# Altium integrated library ZYNQ7010_AD9363.IntLib: 82 symbols
Pins are listed as number, name and electrical type; pins without a type are passive.

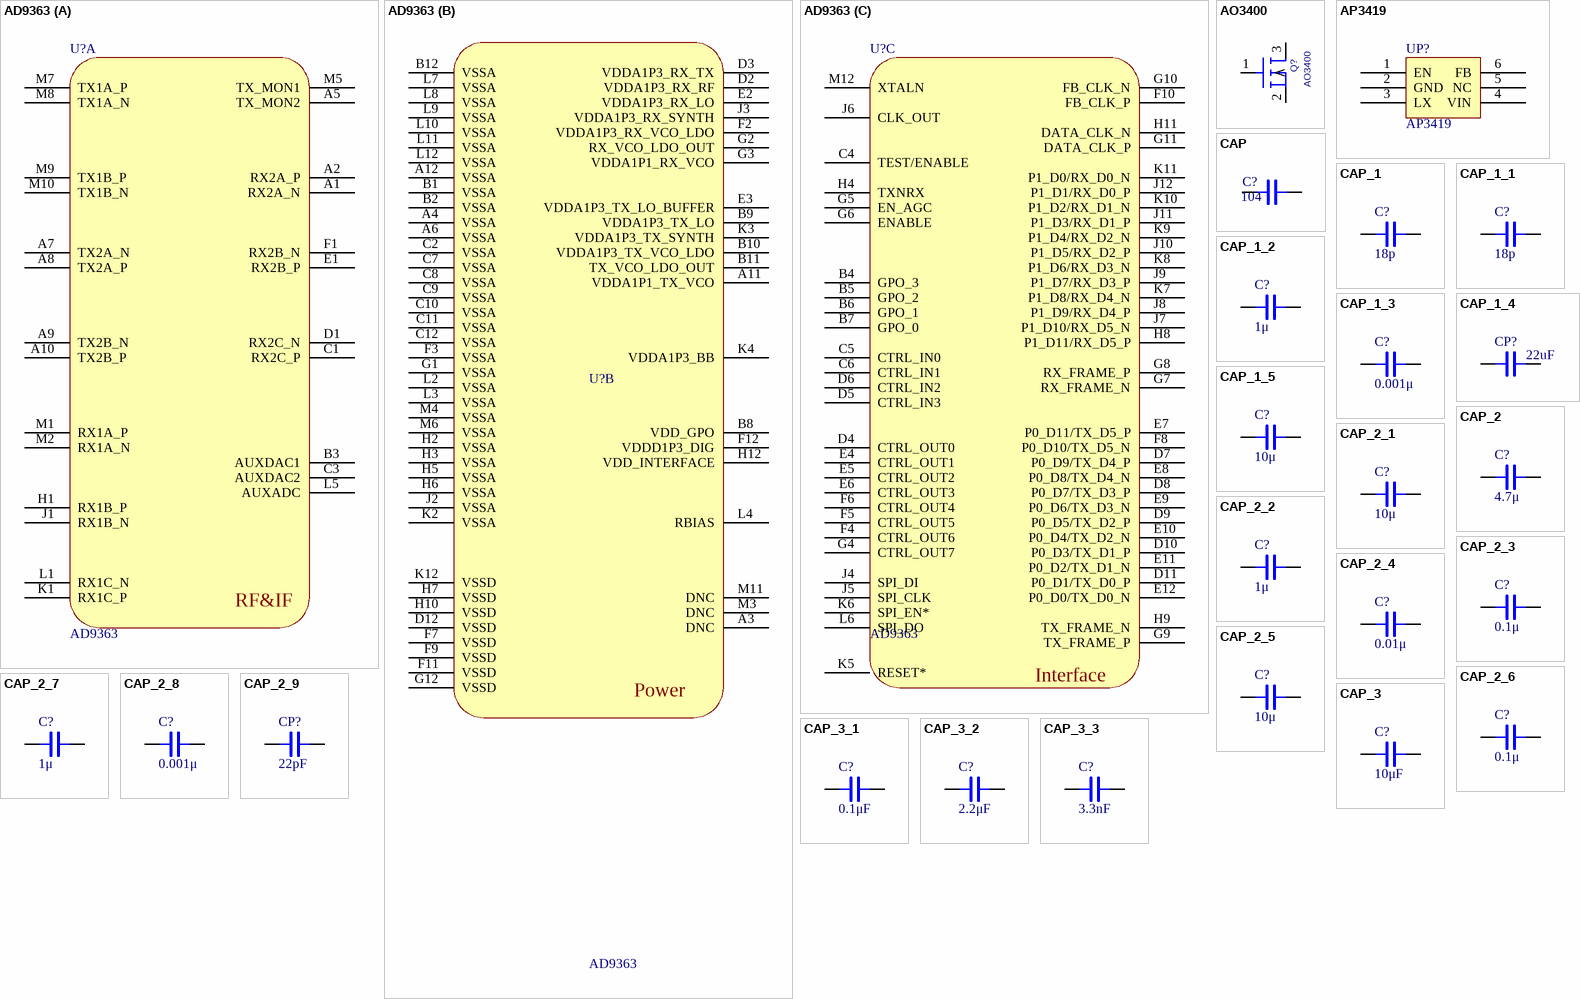
[diagram p0: symbols AD9363 to CAP_3_3]

## AD9363
designator U?
footprint AD936X
part A pins: A1 RX2A_N, A2 RX2A_P, A5 TX_MON2, A7 TX2A_N, A8 TX2A_P, A9 TX2B_N, A10 TX2B_P, B3 AUXDAC1, C1 RX2C_P, C3 AUXDAC2, D1 RX2C_N, E1 RX2B_P, F1 RX2B_N, H1 RX1B_P, J1 RX1B_N, K1 RX1C_P, L1 RX1C_N, L5 AUXADC, M1 RX1A_P, M2 RX1A_N, M5 TX_MON1, M7 TX1A_P, M8 TX1A_N, M9 TX1B_P, M10 TX1B_N
part B pins: A3 DNC, A4 VSSA, A6 VSSA, A11 VDDA1P1_TX_VCO, A12 VSSA, B1 VSSA, B2 VSSA, B8 VDD_GPO, B9 VDDA1P3_TX_LO, B10 VDDA1P3_TX_VCO_LDO, B11 TX_VCO_LDO_OUT, B12 VSSA, C2 VSSA, C7 VSSA, C8 VSSA, C9 VSSA, C10 VSSA, C11 VSSA, C12 VSSA, D2 VDDA1P3_RX_RF, D3 VDDA1P3_RX_TX, D12 VSSD, E2 VDDA1P3_RX_LO, E3 VDDA1P3_TX_LO_BUFFER, F2 VDDA1P3_RX_VCO_LDO, F3 VSSA, F7 VSSD, F9 VSSD, F11 VSSD, F12 VDDD1P3_DIG, G1 VSSA, G2 RX_VCO_LDO_OUT, G3 VDDA1P1_RX_VCO, G12 VSSD, H2 VSSA, H3 VSSA, H5 VSSA, H6 VSSA, H7 VSSD, H10 VSSD, H12 VDD_INTERFACE, J2 VSSA, J3 VDDA1P3_RX_SYNTH, K2 VSSA, K3 VDDA1P3_TX_SYNTH, K4 VDDA1P3_BB, K12 VSSD, L2 VSSA, L3 VSSA, L4 RBIAS, L7 VSSA, L8 VSSA, L9 VSSA, L10 VSSA, L11 VSSA, L12 VSSA, M3 DNC, M4 VSSA, M6 VSSA, M11 DNC
part C pins: B4 GPO_3, B5 GPO_2, B6 GPO_1, B7 GPO_0, C4 TEST/ENABLE, C5 CTRL_IN0, C6 CTRL_IN1, D4 CTRL_OUT0, D5 CTRL_IN3, D6 CTRL_IN2, D7 P0_D9/TX_D4_P, D8 P0_D7/TX_D3_P, D9 P0_D5/TX_D2_P, D10 P0_D3/TX_D1_P, D11 P0_D1/TX_D0_P, E4 CTRL_OUT1, E5 CTRL_OUT2, E6 CTRL_OUT3, E7 P0_D11/TX_D5_P, E8 P0_D8/TX_D4_N, E9 P0_D6/TX_D3_N, E10 P0_D4/TX_D2_N, E11 P0_D2/TX_D1_N, E12 P0_D0/TX_D0_N, F4 CTRL_OUT6, F5 CTRL_OUT5, F6 CTRL_OUT4, F8 P0_D10/TX_D5_N, F10 FB_CLK_P, G4 CTRL_OUT7, G5 EN_AGC, G6 ENABLE, G7 RX_FRAME_N, G8 RX_FRAME_P, G9 TX_FRAME_P, G10 FB_CLK_N, G11 DATA_CLK_P, H4 TXNRX, H8 P1_D11/RX_D5_P, H9 TX_FRAME_N, H11 DATA_CLK_N, J4 SPI_DI, J5 SPI_CLK, J6 CLK_OUT, J7 P1_D10/RX_D5_N, J8 P1_D9/RX_D4_P, J9 P1_D7/RX_D3_P, J10 P1_D5/RX_D2_P, J11 P1_D3/RX_D1_P, J12 P1_D1/RX_D0_P, K5 RESET*, K6 SPI_EN*, K7 P1_D8/RX_D4_N, K8 P1_D6/RX_D3_N, K9 P1_D4/RX_D2_N, K10 P1_D2/RX_D1_N, K11 P1_D0/RX_D0_N, L6 SPI_DO, M12 XTALN
part A text: RF&IF
part B text: Power
part C text: Interface

## AO3400
designator Q?
PSpiceTemplate: X^@REFDES %d %g %s @MODEL
simulation model AO3400
footprint NMOS
pins: 1 G, 2 S, 3 D

## AP3419
designator UP?
footprint AP3419
pins: 1 EN, 2 GND, 3 LX, 4 VIN, 5 NC, 6 FB

## CAP
designator C?, comment 104
Capacitor
footprint LC-0402_C
pins: 1, 2

## CAP_1
designator C?, comment 18p
Capacitor
footprint LC-0603_C
footprint LC-0805_C
footprint LC-0402_C
pins: 1, 2

## CAP_1_1
designator C?, comment 18p
Capacitor
footprint LC-0402_C
pins: 1, 2

## CAP_1_2
designator C?, comment 1μ
Capacitor
footprint LC-0402_C
pins: 1, 2

## CAP_1_3
designator C?, comment 0.001μ
Capacitor
footprint LC-0402_C
pins: 1, 2

## CAP_1_4
designator CP?, comment 22uF
Capacitor
footprint LC-0805_C
pins: 1, 2

## CAP_1_5
designator C?, comment 10μ
Capacitor
footprint LC-0402_C
pins: 1, 2

## CAP_2
designator C?, comment 4.7μ
Capacitor
footprint LC-0603_C
footprint LC-0805_C
footprint LC-0402_C
pins: 1, 2

## CAP_2_1
designator C?, comment 10μ
Capacitor
footprint LC-0603_C
footprint LC-0805_C
footprint LC-0402_C
pins: 1, 2

## CAP_2_2
designator C?, comment 1μ
Capacitor
footprint LC-0603_C
footprint LC-0805_C
footprint LC-0402_C
pins: 1, 2

## CAP_2_3
designator C?, comment 0.1μ
Capacitor
footprint LC-0603_C
footprint LC-0805_C
footprint LC-0402_C
pins: 1, 2

## CAP_2_4
designator C?, comment 0.01μ
Capacitor
footprint LC-0603_C
footprint LC-0805_C
footprint LC-0402_C
pins: 1, 2

## CAP_2_5
designator C?, comment 10μ
Capacitor
footprint LC-0402_C
pins: 1, 2

## CAP_2_6
designator C?, comment 0.1μ
Capacitor
footprint LC-0402_C
pins: 1, 2

## CAP_2_7
designator C?, comment 1μ
Capacitor
footprint LC-0402_C
pins: 1, 2

## CAP_2_8
designator C?, comment 0.001μ
Capacitor
footprint LC-0402_C
pins: 1, 2

## CAP_2_9
designator CP?, comment 22pF
Capacitor
footprint LC-0603_C
footprint LC-0805_C
footprint LC-0402_C
pins: 1, 2

## CAP_3
designator C?, comment 10μF
Capacitor
footprint LC-0805_C
pins: 1, 2

## CAP_3_1
designator C?, comment 0.1μF
Capacitor
footprint LC-0603_C
footprint LC-0805_C
footprint LC-0402_C
pins: 1, 2

## CAP_3_2
designator C?, comment 2.2μF
Capacitor
footprint LC-0603_C
footprint LC-0805_C
footprint LC-0402_C
pins: 1, 2

## CAP_3_3
designator C?, comment 3.3nF
Capacitor
footprint LC-0603_C
footprint LC-0805_C
footprint LC-0402_C
pins: 1, 2

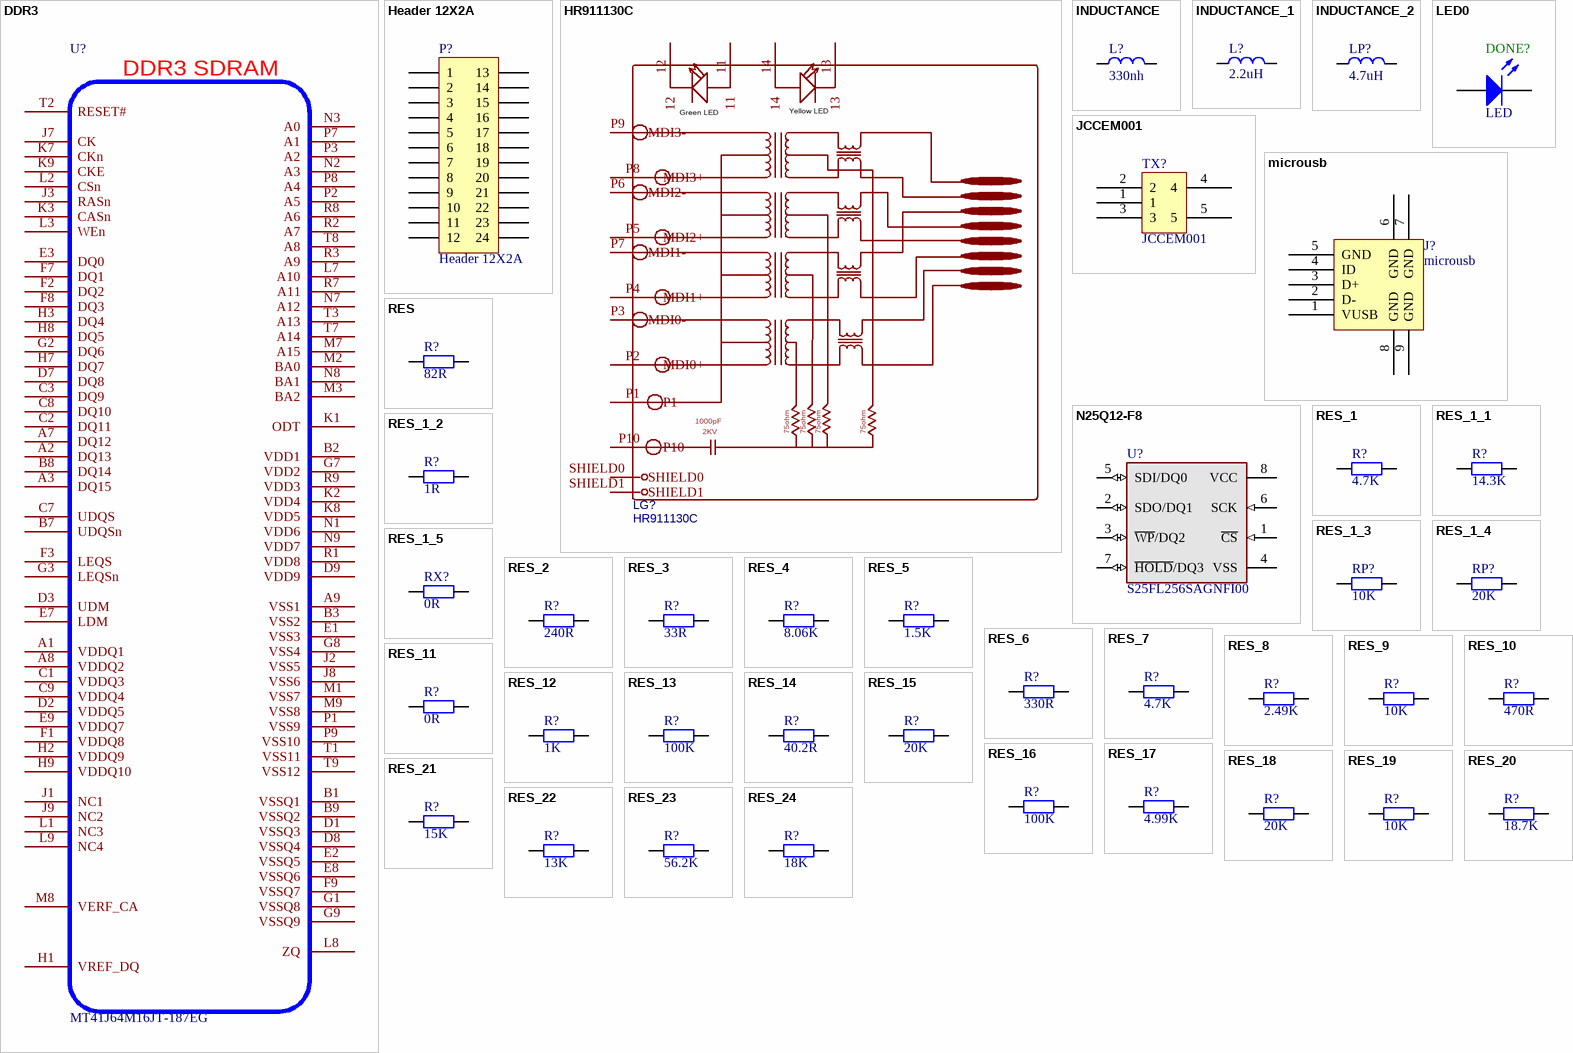
[diagram p1: symbols DDR3 to RES_24]

## DDR3
designator U?, comment MT41J64M16JT-187EG
footprint FBGA96
pins: A1 VDDQ1, A2 DQ13, A3 DQ15, A7 DQ12, A8 VDDQ2, A9 VSS1, B1 VSSQ1, B2 VDD1, B3 VSS2, B7 UDQSn, B8 DQ14, B9 VSSQ2, C1 VDDQ3, C2 DQ11, C3 DQ9, C7 UDQS, C8 DQ10, C9 VDDQ4, D1 VSSQ3, D2 VDDQ5, D3 UDM, D7 DQ8, D8 VSSQ4, D9 VDD9, E1 VSS3, E2 VSSQ5, E3 DQ0, E7 LDM, E8 VSSQ6, E9 VDDQ7, F1 VDDQ8, F2 DQ2, F3 LEQS, F7 DQ1, F8 DQ3, F9 VSSQ7, G1 VSSQ8, G2 DQ6, G3 LEQSn, G7 VDD2, G8 VSS4, G9 VSSQ9, H1 VREF_DQ, H2 VDDQ9, H3 DQ4, H7 DQ7, H8 DQ5, H9 VDDQ10, J1 NC1, J2 VSS5, J3 RASn, J7 CK, J8 VSS6, J9 NC2, K1 ODT, K2 VDD4, K3 CASn, K7 CKn, K8 VDD5, K9 CKE, L1 NC3, L2 CSn, L3 WEn, L7 A10, L8 ZQ, L9 NC4, M1 VSS7, M2 BA0, M3 BA2, M7 A15, M8 VERF_CA, M9 VSS8, N1 VDD6, N2 A3, N3 A0, N7 A12, N8 BA1, N9 VDD7, P1 VSS9, P2 A5, P3 A2, P7 A1, P8 A4, P9 VSS10, R1 VDD8, R2 A7, R3 A9, R7 A11, R8 A6, R9 VDD3, T1 VSS11, T2 RESET#, T3 A13, T7 A14, T8 A8, T9 VSS12
text: DDR3 SDRAM

## Header 12X2A
designator P?
Header, 12-Pin, Dual row; LatestRevisionDate: 17-Jul-2002; LatestRevisionNote: Re-released for DXP Platform.; Publisher: Altium Limited
footprint HDR2X12_CEN (Connector; Header; 12x2 Position)
signal-integrity model Connector
pins: 1, 2, 3, 4, 5, 6, 7, 8, 9, 10, 11, 12, 13, 14, 15, 16, 17, 18, 19, 20, 21, 22, 23, 24

## HR911130C
designator LG?
BOM_Manufacturer: HANRUN; nameAlias: Value; Contributor: LCSC; BOM_Supplier: LCSC; BOM_Manufacturer Part: HR911130C; BOM_Supplier Part: C50933; spicePre: L; spiceSymbolName: HR911130C
footprint HR911130C
pins: 11, 12, 13, 14, P1, P2 MDI0+, P3 MDI0-, P4 MDI1+, P5 MDI2+, P6 MDI2-, P7 MDI1-, P8 MDI3+, P9 MDI3-, P10, SHIELD0, SHIELD1
text: Green LED; Yellow LED; J8; J7; J6 RX-; J5; J4; J3 RX+; J2 TX-; J1 TX+; 1000pF; 75ohm; 2KV

## INDUCTANCE
designator L?, comment 330nh
Inductance
footprint LC-0603_L
pins: 1, 2

## INDUCTANCE_1
designator L?, comment 2.2uH
Inductance
footprint L1008
pins: 1, 2

## INDUCTANCE_2
designator LP?, comment 4.7uH
Inductance
footprint L1008
pins: 1, 2

## JCCEM001
designator TX?
footprint CNSMARAL687W375H171
pins: 1, 2, 3, 4, 5

## LED0
designator DONE?, comment LED
Typical INFRARED GaAs LED; Published: 8-Jun-2000; LatestRevisionDate: 08-Jul-2005; LatestRevisionNote: Mech Layer 1 removed.; PackageReference: LED-0; Publisher: Altium Limited; PackageDescription: LED; 2 Leads
simulation model LED0 (Diode)
footprint D0402 (Footprint not found)
pins: 1 A, 2 K

## microusb
designator J?
footprint micro usb
pins: 1 VUSB, 2 D-, 3 D+, 4 ID, 5 GND, 6 GND, 7 GND, 8 GND, 9 GND

## N25Q12-F8
designator U?, comment S25FL256SAGNFI00
Serial Flash Memory, 16Mbit, Low Voltage, 50MHz SPI Bus Interface; Manufacturer: Spansion; DPN: *
footprint MLP8
pins: 1 ~{CS} (in), 2 SDO/DQ1 (io), 3 ~{WP}/DQ2 (io), 4 VSS (power), 5 SDI/DQ0 (io), 6 SCK (in), 7 ~{HOLD}/DQ3 (io), 8 VCC (power)

## RES
designator R?, comment 82R
Resistor
footprint LC-0603_R
footprint LC-0402_R
pins: 1, 2

## RES_1
designator R?, comment 4.7K
Resistor
footprint LC-0603_R
footprint LC-0402_R
pins: 1, 2

## RES_1_1
designator R?, comment 14.3K
Resistor
footprint LC-0402_R
pins: 1, 2

## RES_1_2
designator R?, comment 1R
Resistor
footprint LC-0402_R
pins: 1, 2

## RES_1_3
designator RP?, comment 10K
Resistor
footprint LC-0402_R
pins: 1, 2

## RES_1_4
designator RP?, comment 20K
Resistor
footprint LC-0402_R
pins: 1, 2

## RES_1_5
designator RX?, comment 0R
Resistor
footprint LC-0402_R
pins: 1, 2

## RES_2
designator R?, comment 240R
Resistor
footprint LC-0603_R
footprint LC-0402_R
pins: 1, 2

## RES_3
designator R?, comment 33R
Resistor
footprint LC-0603_R
footprint LC-0402_R
pins: 1, 2

## RES_4
designator R?, comment 8.06K
Resistor
footprint LC-0603_R
footprint LC-0402_R
pins: 1, 2

## RES_5
designator R?, comment 1.5K
Resistor
footprint LC-0603_R
footprint LC-0402_R
pins: 1, 2

## RES_6
designator R?, comment 330R
Resistor
footprint LC-0603_R
footprint LC-0402_R
pins: 1, 2

## RES_7
designator R?, comment 4.7K
Resistor
footprint LC-0603_R
footprint LC-0402_R
pins: 1, 2

## RES_8
designator R?, comment 2.49K
Resistor
footprint LC-0603_R
footprint LC-0402_R
pins: 1, 2

## RES_9
designator R?, comment 10K
Resistor
footprint LC-0603_R
footprint LC-0402_R
pins: 1, 2

## RES_10
designator R?, comment 470R
Resistor
footprint LC-0603_R
footprint LC-0402_R
pins: 1, 2

## RES_11
designator R?, comment 0R
Resistor
footprint LC-0603_R
footprint LC-0402_R
pins: 1, 2

## RES_12
designator R?, comment 1K
Resistor
footprint LC-0603_R
footprint LC-0402_R
pins: 1, 2

## RES_13
designator R?, comment 100K
Resistor
footprint LC-0603_R
footprint LC-0402_R
pins: 1, 2

## RES_14
designator R?, comment 40.2R
Resistor
footprint LC-0603_R
footprint LC-0402_R
pins: 1, 2

## RES_15
designator R?, comment 20K
Resistor
footprint LC-0603_R
footprint LC-0402_R
pins: 1, 2

## RES_16
designator R?, comment 100K
Resistor
footprint LC-0603_R
footprint LC-0402_R
pins: 1, 2

## RES_17
designator R?, comment 4.99K
Resistor
footprint LC-0603_R
footprint LC-0402_R
pins: 1, 2

## RES_18
designator R?, comment 20K
Resistor
footprint LC-0603_R
footprint LC-0402_R
pins: 1, 2

## RES_19
designator R?, comment 10K
Resistor
footprint LC-0603_R
footprint LC-0402_R
pins: 1, 2

## RES_20
designator R?, comment 18.7K
Resistor
footprint LC-0603_R
footprint LC-0402_R
pins: 1, 2

## RES_21
designator R?, comment 15K
Resistor
footprint LC-0603_R
footprint LC-0402_R
pins: 1, 2

## RES_22
designator R?, comment 13K
Resistor
footprint LC-0603_R
footprint LC-0402_R
pins: 1, 2

## RES_23
designator R?, comment 56.2K
Resistor
footprint LC-0603_R
footprint LC-0402_R
pins: 1, 2

## RES_24
designator R?, comment 18K
Resistor
footprint LC-0603_R
footprint LC-0402_R
pins: 1, 2

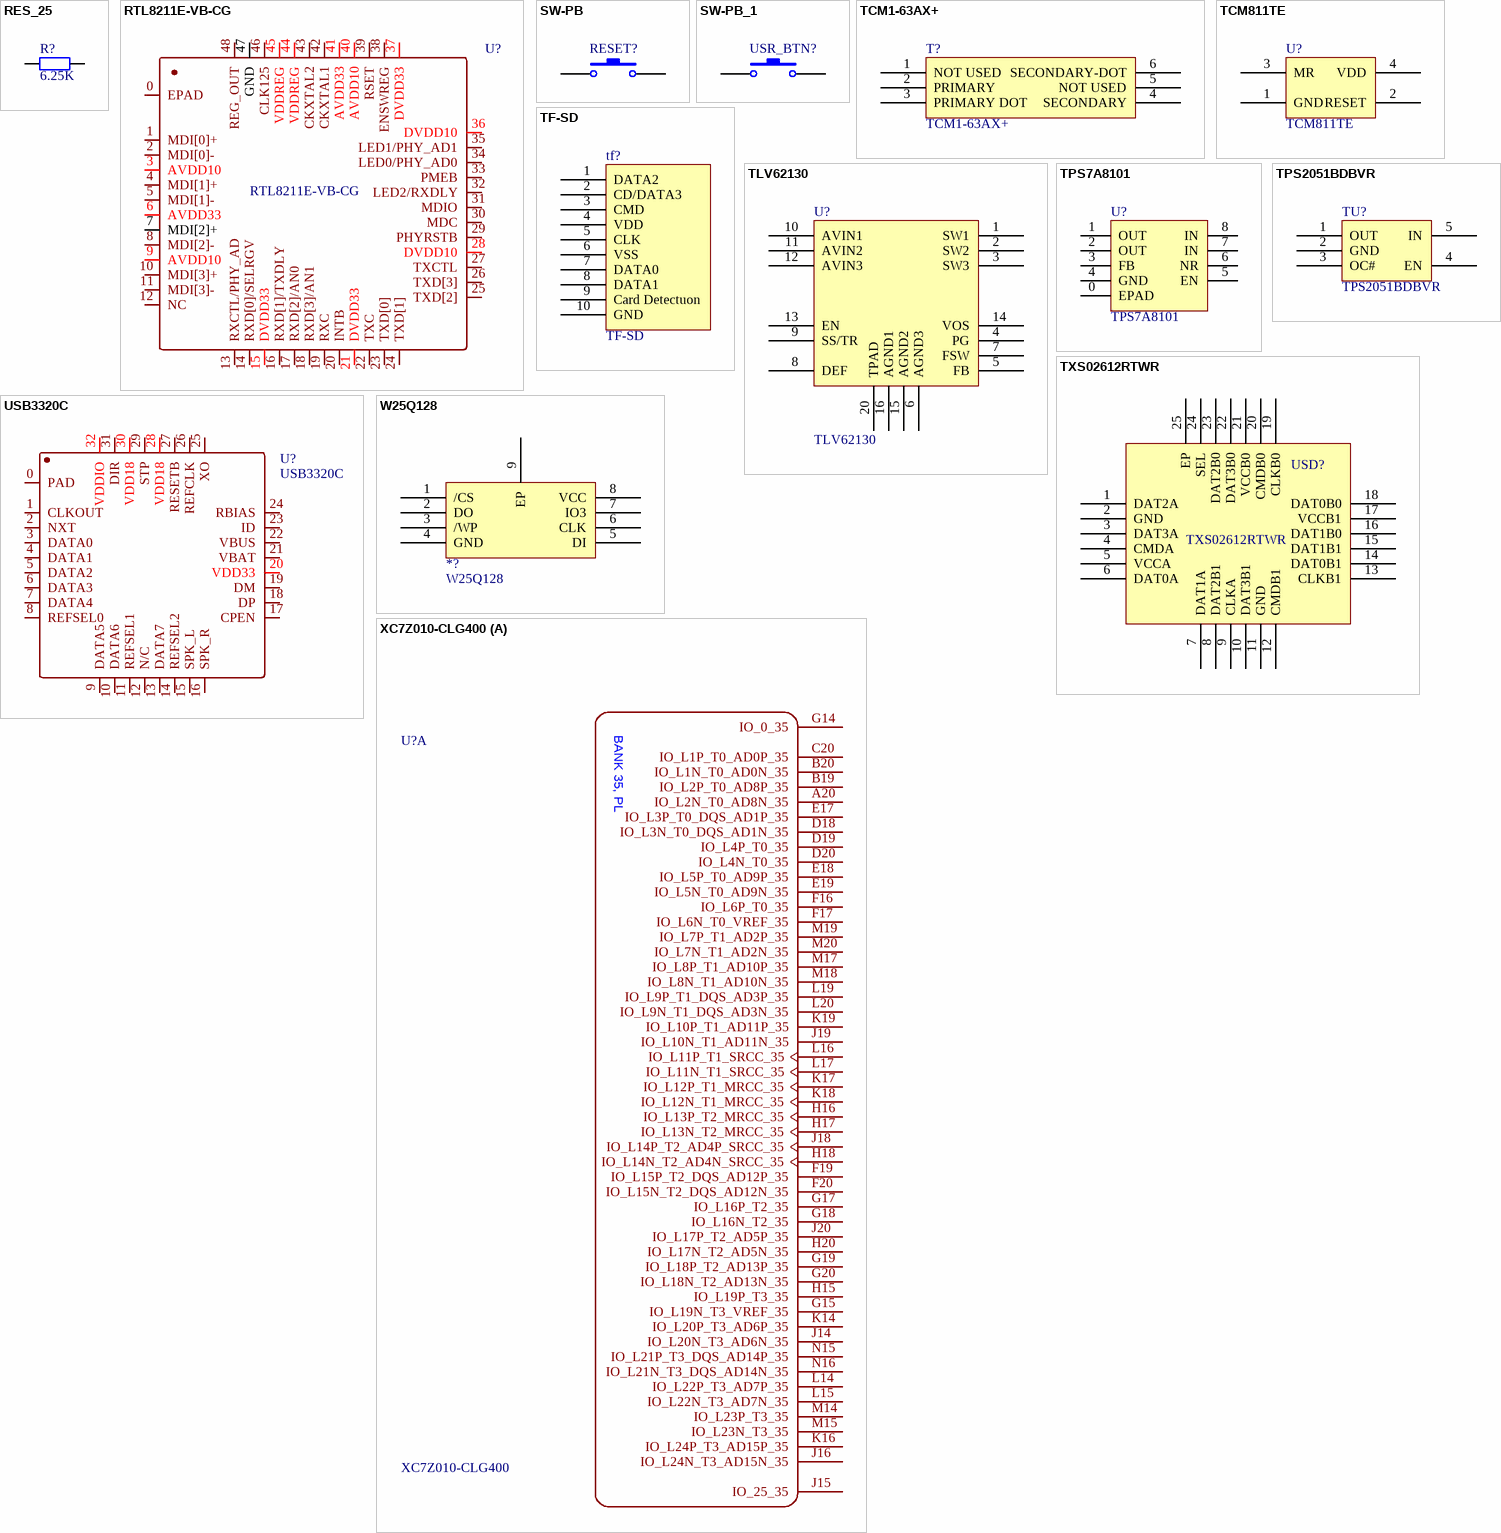
[diagram p2: symbols RES_25 to XC7Z010-CLG400]

## RES_25
designator R?, comment 6.25K
Resistor
footprint LC-0603_R
footprint LC-0402_R
pins: 1, 2

## RTL8211E-VB-CG
designator U?
footprint LC-QFN-48_6x6x04P
pins: 0 EPAD, 1 MDI[0]+, 2 MDI[0]-, 3 AVDD10, 4 MDI[1]+, 5 MDI[1]-, 6 AVDD33, 7 MDI[2]+, 8 MDI[2]-, 9 AVDD10, 10 MDI[3]+, 11 MDI[3]-, 12 NC, 13 RXCTL/PHY_AD, 14 RXD[0]/SELRGV, 15 DVDD33, 16 RXD[1]/TXDLY, 17 RXD[2]/AN0, 18 RXD[3]/AN1, 19 RXC, 20 INTB, 21 DVDD33, 22 TXC, 23 TXD[0], 24 TXD[1], 25 TXD[2], 26 TXD[3], 27 TXCTL, 28 DVDD10, 29 PHYRSTB, 30 MDC, 31 MDIO, 32 LED2/RXDLY, 33 PMEB, 34 LED0/PHY_AD0, 35 LED1/PHY_AD1, 36 DVDD10, 37 DVDD33, 38 ENSWREG, 39 RSET, 40 AVDD10, 41 AVDD33, 42 CKXTAL1, 43 CKXTAL2, 44 VDDREG, 45 VDDREG, 46 CLK125, 47 GND, 48 REG_OUT

## SW-PB
designator RESET?  (value not drawn)
Switch; Published: 24-Mar-1999; LatestRevisionDate: 17-Jul-2002; LatestRevisionNote: Re-released for DXP Platform.; PackageReference: SPST-2; Publisher: Altium Limited; PackageDescription: Switch; 2 Leads
footprint 开关
pins: 1, 2

## SW-PB_1
designator USR_BTN?, comment SW-PB  (value not drawn)
Switch; Published: 24-Mar-1999; LatestRevisionDate: 17-Jul-2002; LatestRevisionNote: Re-released for DXP Platform.; PackageReference: SPST-2; Publisher: Altium Limited; PackageDescription: Switch; 2 Leads
footprint 开关
pins: 1, 2

## TCM1-63AX+
designator T?
footprint TSML150W160H160
pins: 1 NOT USED, 2 PRIMARY, 3 PRIMARY DOT, 4 SECONDARY, 5 NOT USED, 6 SECONDARY-DOT

## TCM811TE
designator U?
footprint TCM811TERCTR
pins: 1 GND, 2 RESET, 3 MR, 4 VDD

## TF-SD
designator tf?
Parameter 1: *
footprint TF
pins: 1 DATA2, 2 CD/DATA3, 3 CMD, 4 VDD, 5 CLK, 6 VSS, 7 DATA0, 8 DATA1, 9 Card Detectuon, 10 GND

## TLV62130
designator U?
footprint TLV62130RGT
pins: 1 SW1, 2 SW2, 3 SW3, 4 PG, 5 FB, 6 AGND3, 7 FSW, 8 DEF, 9 SS/TR, 10 AVIN1, 11 AVIN2, 12 AVIN3, 13 EN, 14 VOS, 15 AGND2, 16 AGND1, 20 TPAD

## TPS7A8101
designator U?
footprint TPS7A8101
pins: 0 EPAD, 1 OUT, 2 OUT, 3 FB, 4 GND, 5 EN, 6 NR, 7 IN, 8 IN

## TPS2051BDBVR
designator TU?
footprint TPS2051BDBVR
pins: 1 OUT, 2 GND, 3 OC#, 4 EN, 5 IN

## TXS02612RTWR
designator USD?
footprint TXS02612RTWR
pins: 1 DAT2A, 2 GND, 3 DAT3A, 4 CMDA, 5 VCCA, 6 DAT0A, 7 DAT1A, 8 DAT2B1, 9 CLKA, 10 DAT3B1, 11 GND, 12 CMDB1, 13 CLKB1, 14 DAT0B1, 15 DAT1B1, 16 DAT1B0, 17 VCCB1, 18 DAT0B0, 19 CLKB0, 20 CMDB0, 21 VCCB0, 22 DAT3B0, 23 DAT2B0, 24 SEL, 25 EP

## USB3320C
designator U?
footprint LC-QFN-32_5x5x05P
pins: 0 PAD, 1 CLKOUT, 2 NXT, 3 DATA0, 4 DATA1, 5 DATA2, 6 DATA3, 7 DATA4, 8 REFSEL0, 9 DATA5, 10 DATA6, 11 REFSEL1, 12 N/C, 13 DATA7, 14 REFSEL2, 15 SPK_L, 16 SPK_R, 17 CPEN, 18 DP, 19 DM, 20 VDD33, 21 VBAT, 22 VBUS, 23 ID, 24 RBIAS, 25 XO, 26 REFCLK, 27 RESETB, 28 VDD18, 29 STP, 30 VDD18, 31 DIR, 32 VDDIO

## W25Q128
designator *?
footprint W25Q256
pins: 1 /CS, 2 DO, 3 /WP, 4 GND, 5 DI, 6 CLK, 7 IO3, 8 VCC, 9 EP

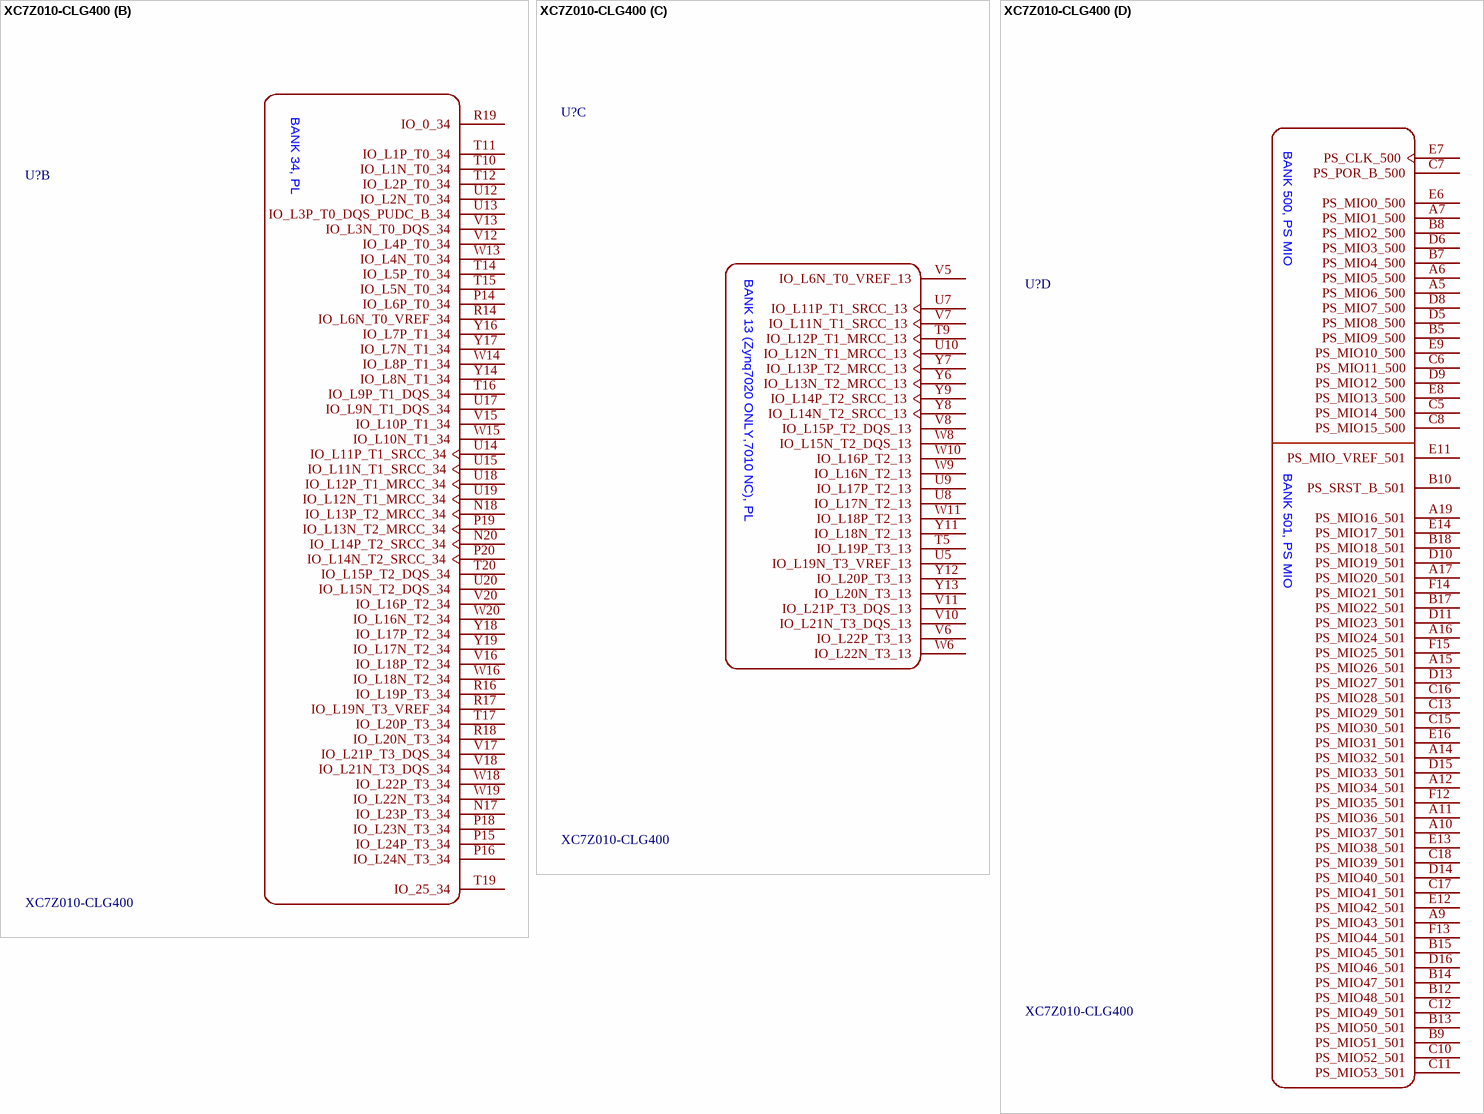
[diagram p3: symbol XC7Z010-CLG400]

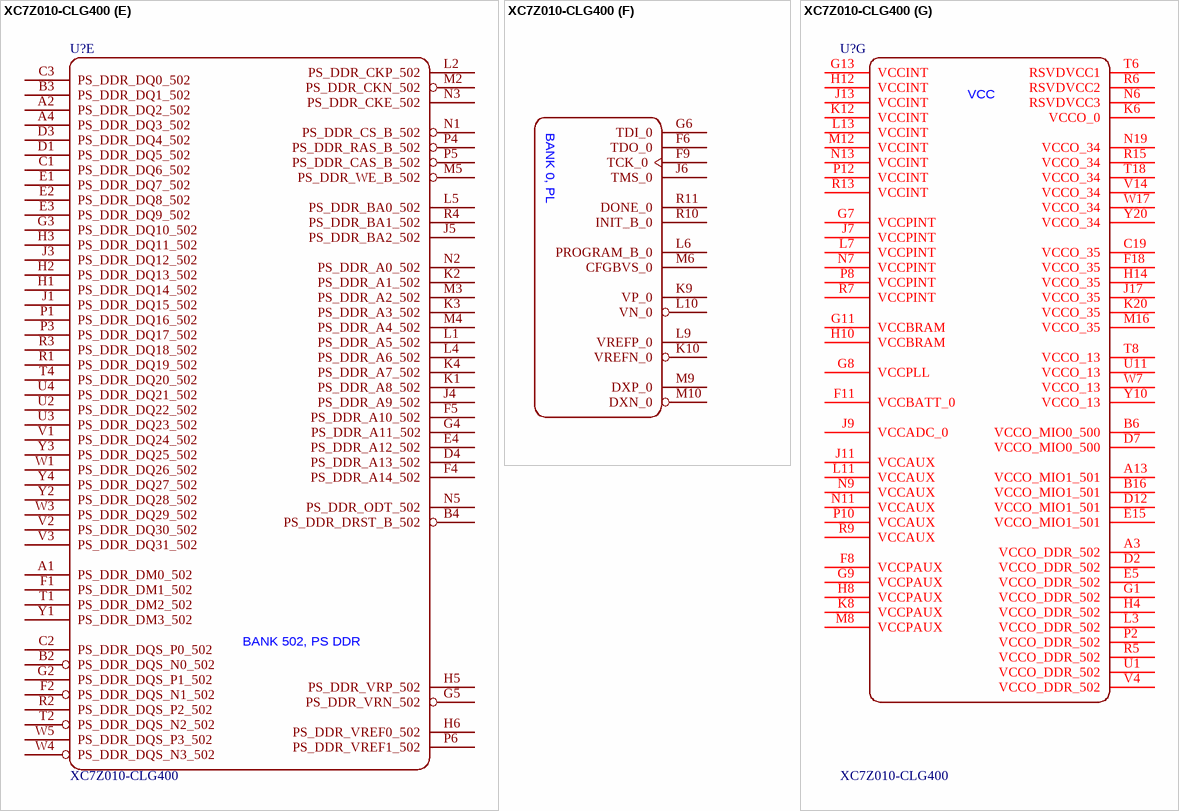
[diagram p4: symbol XC7Z010-CLG400]

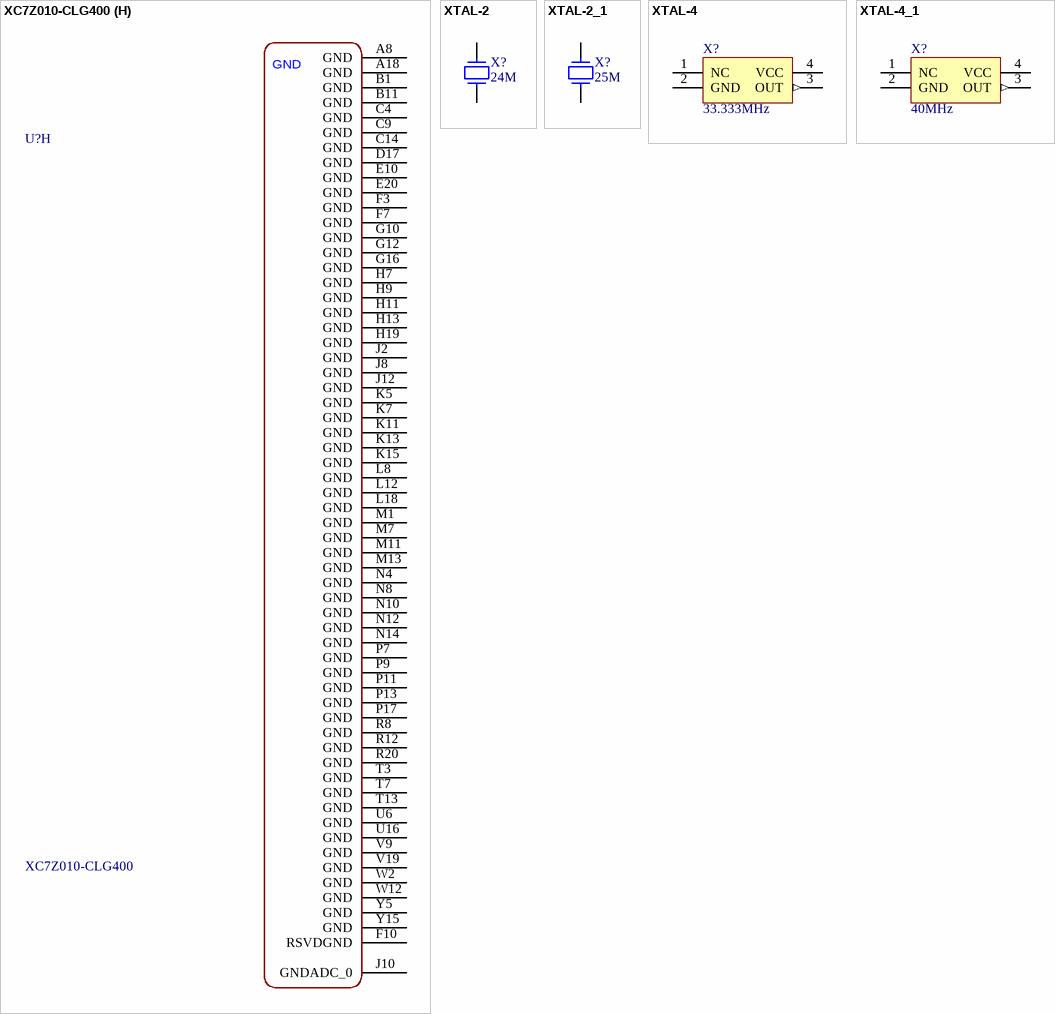
[diagram p5: symbols XC7Z010-CLG400 to XTAL-4_1]

## XC7Z010-CLG400
designator U?
footprint CLG400-0.8
part A pins: A20 IO_L2N_T0_AD8N_35, B19 IO_L2P_T0_AD8P_35, B20 IO_L1N_T0_AD0N_35, C20 IO_L1P_T0_AD0P_35, D18 IO_L3N_T0_DQS_AD1N_35, D19 IO_L4P_T0_35, D20 IO_L4N_T0_35, E17 IO_L3P_T0_DQS_AD1P_35, E18 IO_L5P_T0_AD9P_35, E19 IO_L5N_T0_AD9N_35, F16 IO_L6P_T0_35, F17 IO_L6N_T0_VREF_35, F19 IO_L15P_T2_DQS_AD12P_35, F20 IO_L15N_T2_DQS_AD12N_35, G14 IO_0_35, G15 IO_L19N_T3_VREF_35, G17 IO_L16P_T2_35, G18 IO_L16N_T2_35, G19 IO_L18P_T2_AD13P_35, G20 IO_L18N_T2_AD13N_35, H15 IO_L19P_T3_35, H16 IO_L13P_T2_MRCC_35, H17 IO_L13N_T2_MRCC_35, H18 IO_L14N_T2_AD4N_SRCC_35, H20 IO_L17N_T2_AD5N_35, J14 IO_L20N_T3_AD6N_35, J15 IO_25_35, J16 IO_L24N_T3_AD15N_35, J18 IO_L14P_T2_AD4P_SRCC_35, J19 IO_L10N_T1_AD11N_35, J20 IO_L17P_T2_AD5P_35, K14 IO_L20P_T3_AD6P_35, K16 IO_L24P_T3_AD15P_35, K17 IO_L12P_T1_MRCC_35, K18 IO_L12N_T1_MRCC_35, K19 IO_L10P_T1_AD11P_35, L14 IO_L22P_T3_AD7P_35, L15 IO_L22N_T3_AD7N_35, L16 IO_L11P_T1_SRCC_35, L17 IO_L11N_T1_SRCC_35, L19 IO_L9P_T1_DQS_AD3P_35, L20 IO_L9N_T1_DQS_AD3N_35, M14 IO_L23P_T3_35, M15 IO_L23N_T3_35, M17 IO_L8P_T1_AD10P_35, M18 IO_L8N_T1_AD10N_35, M19 IO_L7P_T1_AD2P_35, M20 IO_L7N_T1_AD2N_35, N15 IO_L21P_T3_DQS_AD14P_35, N16 IO_L21N_T3_DQS_AD14N_35
part B pins: N17 IO_L23P_T3_34, N18 IO_L13P_T2_MRCC_34, N20 IO_L14P_T2_SRCC_34, P14 IO_L6P_T0_34, P15 IO_L24P_T3_34, P16 IO_L24N_T3_34, P18 IO_L23N_T3_34, P19 IO_L13N_T2_MRCC_34, P20 IO_L14N_T2_SRCC_34, R14 IO_L6N_T0_VREF_34, R16 IO_L19P_T3_34, R17 IO_L19N_T3_VREF_34, R18 IO_L20N_T3_34, R19 IO_0_34, T10 IO_L1N_T0_34, T11 IO_L1P_T0_34, T12 IO_L2P_T0_34, T14 IO_L5P_T0_34, T15 IO_L5N_T0_34, T16 IO_L9P_T1_DQS_34, T17 IO_L20P_T3_34, T19 IO_25_34, T20 IO_L15P_T2_DQS_34, U12 IO_L2N_T0_34, U13 IO_L3P_T0_DQS_PUDC_B_34, U14 IO_L11P_T1_SRCC_34, U15 IO_L11N_T1_SRCC_34, U17 IO_L9N_T1_DQS_34, U18 IO_L12P_T1_MRCC_34, U19 IO_L12N_T1_MRCC_34, U20 IO_L15N_T2_DQS_34, V12 IO_L4P_T0_34, V13 IO_L3N_T0_DQS_34, V15 IO_L10P_T1_34, V16 IO_L18P_T2_34, V17 IO_L21P_T3_DQS_34, V18 IO_L21N_T3_DQS_34, V20 IO_L16P_T2_34, W13 IO_L4N_T0_34, W14 IO_L8P_T1_34, W15 IO_L10N_T1_34, W16 IO_L18N_T2_34, W18 IO_L22P_T3_34, W19 IO_L22N_T3_34, W20 IO_L16N_T2_34, Y14 IO_L8N_T1_34, Y16 IO_L7P_T1_34, Y17 IO_L7N_T1_34, Y18 IO_L17P_T2_34, Y19 IO_L17N_T2_34
part C pins: T5 IO_L19P_T3_13, T9 IO_L12P_T1_MRCC_13, U5 IO_L19N_T3_VREF_13, U7 IO_L11P_T1_SRCC_13, U8 IO_L17N_T2_13, U9 IO_L17P_T2_13, U10 IO_L12N_T1_MRCC_13, V5 IO_L6N_T0_VREF_13, V6 IO_L22P_T3_13, V7 IO_L11N_T1_SRCC_13, V8 IO_L15P_T2_DQS_13, V10 IO_L21N_T3_DQS_13, V11 IO_L21P_T3_DQS_13, W6 IO_L22N_T3_13, W8 IO_L15N_T2_DQS_13, W9 IO_L16N_T2_13, W10 IO_L16P_T2_13, W11 IO_L18P_T2_13, Y6 IO_L13N_T2_MRCC_13, Y7 IO_L13P_T2_MRCC_13, Y8 IO_L14N_T2_SRCC_13, Y9 IO_L14P_T2_SRCC_13, Y11 IO_L18N_T2_13, Y12 IO_L20P_T3_13, Y13 IO_L20N_T3_13
part D pins: A5 PS_MIO6_500, A6 PS_MIO5_500, A7 PS_MIO1_500, A9 PS_MIO43_501, A10 PS_MIO37_501, A11 PS_MIO36_501, A12 PS_MIO34_501, A14 PS_MIO32_501, A15 PS_MIO26_501, A16 PS_MIO24_501, A17 PS_MIO20_501, A19 PS_MIO16_501, B5 PS_MIO9_500, B7 PS_MIO4_500, B8 PS_MIO2_500, B9 PS_MIO51_501, B10 PS_SRST_B_501, B12 PS_MIO48_501, B13 PS_MIO50_501, B14 PS_MIO47_501, B15 PS_MIO45_501, B17 PS_MIO22_501, B18 PS_MIO18_501, C5 PS_MIO14_500, C6 PS_MIO11_500, C7 PS_POR_B_500, C8 PS_MIO15_500, C10 PS_MIO52_501, C11 PS_MIO53_501, C12 PS_MIO49_501, C13 PS_MIO29_501, C15 PS_MIO30_501, C16 PS_MIO28_501, C17 PS_MIO41_501, C18 PS_MIO39_501, D5 PS_MIO8_500, D6 PS_MIO3_500, D8 PS_MIO7_500, D9 PS_MIO12_500, D10 PS_MIO19_501, D11 PS_MIO23_501, D13 PS_MIO27_501, D14 PS_MIO40_501, D15 PS_MIO33_501, D16 PS_MIO46_501, E6 PS_MIO0_500, E7 PS_CLK_500, E8 PS_MIO13_500, E9 PS_MIO10_500, E11 PS_MIO_VREF_501, E12 PS_MIO42_501, E13 PS_MIO38_501, E14 PS_MIO17_501, E16 PS_MIO31_501, F12 PS_MIO35_501, F13 PS_MIO44_501, F14 PS_MIO21_501, F15 PS_MIO25_501
part E pins: A1 PS_DDR_DM0_502, A2 PS_DDR_DQ2_502, A4 PS_DDR_DQ3_502, B2 PS_DDR_DQS_N0_502, B3 PS_DDR_DQ1_502, B4 PS_DDR_DRST_B_502, C1 PS_DDR_DQ6_502, C2 PS_DDR_DQS_P0_502, C3 PS_DDR_DQ0_502, D1 PS_DDR_DQ5_502, D3 PS_DDR_DQ4_502, D4 PS_DDR_A13_502, E1 PS_DDR_DQ7_502, E2 PS_DDR_DQ8_502, E3 PS_DDR_DQ9_502, E4 PS_DDR_A12_502, F1 PS_DDR_DM1_502, F2 PS_DDR_DQS_N1_502, F4 PS_DDR_A14_502, F5 PS_DDR_A10_502, G2 PS_DDR_DQS_P1_502, G3 PS_DDR_DQ10_502, G4 PS_DDR_A11_502, G5 PS_DDR_VRN_502, H1 PS_DDR_DQ14_502, H2 PS_DDR_DQ13_502, H3 PS_DDR_DQ11_502, H5 PS_DDR_VRP_502, H6 PS_DDR_VREF0_502, J1 PS_DDR_DQ15_502, J3 PS_DDR_DQ12_502, J4 PS_DDR_A9_502, J5 PS_DDR_BA2_502, K1 PS_DDR_A8_502, K2 PS_DDR_A1_502, K3 PS_DDR_A3_502, K4 PS_DDR_A7_502, L1 PS_DDR_A5_502, L2 PS_DDR_CKP_502, L4 PS_DDR_A6_502, L5 PS_DDR_BA0_502, M2 PS_DDR_CKN_502, M3 PS_DDR_A2_502, M4 PS_DDR_A4_502, M5 PS_DDR_WE_B_502, N1 PS_DDR_CS_B_502, N2 PS_DDR_A0_502, N3 PS_DDR_CKE_502, N5 PS_DDR_ODT_502, P1 PS_DDR_DQ16_502, P3 PS_DDR_DQ17_502, P4 PS_DDR_RAS_B_502, P5 PS_DDR_CAS_B_502, P6 PS_DDR_VREF1_502, R1 PS_DDR_DQ19_502, R2 PS_DDR_DQS_P2_502, R3 PS_DDR_DQ18_502, R4 PS_DDR_BA1_502, T1 PS_DDR_DM2_502, T2 PS_DDR_DQS_N2_502, T4 PS_DDR_DQ20_502, U2 PS_DDR_DQ22_502, U3 PS_DDR_DQ23_502, U4 PS_DDR_DQ21_502, V1 PS_DDR_DQ24_502, V2 PS_DDR_DQ30_502, V3 PS_DDR_DQ31_502, W1 PS_DDR_DQ26_502, W3 PS_DDR_DQ29_502, W4 PS_DDR_DQS_N3_502, W5 PS_DDR_DQS_P3_502, Y1 PS_DDR_DM3_502, Y2 PS_DDR_DQ28_502, Y3 PS_DDR_DQ25_502, Y4 PS_DDR_DQ27_502
part F pins: F6 TDO_0, F9 TCK_0, G6 TDI_0, J6 TMS_0, K9 VP_0, K10 VREFN_0, L6 PROGRAM_B_0, L9 VREFP_0, L10 VN_0, M6 CFGBVS_0, M9 DXP_0, M10 DXN_0, R10 INIT_B_0, R11 DONE_0
part G pins: A3 VCCO_DDR_502, A13 VCCO_MIO1_501, B6 VCCO_MIO0_500, B16 VCCO_MIO1_501, C19 VCCO_35, D2 VCCO_DDR_502, D7 VCCO_MIO0_500, D12 VCCO_MIO1_501, E5 VCCO_DDR_502, E15 VCCO_MIO1_501, F8 VCCPAUX, F11 VCCBATT_0, F18 VCCO_35, G1 VCCO_DDR_502, G7 VCCPINT, G8 VCCPLL, G9 VCCPAUX, G11 VCCBRAM, G13 VCCINT, H4 VCCO_DDR_502, H8 VCCPAUX, H10 VCCBRAM, H12 VCCINT, H14 VCCO_35, J7 VCCPINT, J9 VCCADC_0, J11 VCCAUX, J13 VCCINT, J17 VCCO_35, K6 VCCO_0, K8 VCCPAUX, K12 VCCINT, K20 VCCO_35, L3 VCCO_DDR_502, L7 VCCPINT, L11 VCCAUX, L13 VCCINT, M8 VCCPAUX, M12 VCCINT, M16 VCCO_35, N6 RSVDVCC3, N7 VCCPINT, N9 VCCAUX, N11 VCCAUX, N13 VCCINT, N19 VCCO_34, P2 VCCO_DDR_502, P8 VCCPINT, P10 VCCAUX, P12 VCCINT, R5 VCCO_DDR_502, R6 RSVDVCC2, R7 VCCPINT, R9 VCCAUX, R13 VCCINT, R15 VCCO_34, T6 RSVDVCC1, T8 VCCO_13, T18 VCCO_34, U1 VCCO_DDR_502, U11 VCCO_13, V4 VCCO_DDR_502, V14 VCCO_34, W7 VCCO_13, W17 VCCO_34, Y10 VCCO_13, Y20 VCCO_34
part H pins: A8 GND, A18 GND, B1 GND, B11 GND, C4 GND, C9 GND, C14 GND, D17 GND, E10 GND, E20 GND, F3 GND, F7 GND, F10 RSVDGND, G10 GND, G12 GND, G16 GND, H7 GND, H9 GND, H11 GND, H13 GND, H19 GND, J2 GND, J8 GND, J10 GNDADC_0, J12 GND, K5 GND, K7 GND, K11 GND, K13 GND, K15 GND, L8 GND, L12 GND, L18 GND, M1 GND, M7 GND, M11 GND, M13 GND, N4 GND, N8 GND, N10 GND, N12 GND, N14 GND, P7 GND, P9 GND, P11 GND, P13 GND, P17 GND, R8 GND, R12 GND, R20 GND, T3 GND, T7 GND, T13 GND, U6 GND, U16 GND, V9 GND, V19 GND, W2 GND, W12 GND, Y5 GND, Y15 GND
part A text: BANK 35, PL
part B text: BANK 34, PL
part C text: BANK 13 (Zynq7020 ONLY,7010 NC), PL
part D text: BANK 500, PS MIO; BANK 501, PS MIO
part E text: BANK 502, PS DDR
part F text: BANK 0, PL
part G text: VCC

## XTAL-2
designator X?, comment 24M
Crystal
footprint LC-SMD-5032_2P
pins: 1, 2

## XTAL-2_1
designator X?, comment 25M
Crystal
footprint LC-SMD-5032_2P
pins: 1, 2

## XTAL-4
designator X?, comment 33.333MHz
Oscillator
footprint OSC-SMD_4P-L3.2-W2.5-BL (有源晶振)
pins: 1 NC, 2 GND (power), 3 OUT (out), 4 VCC (power)

## XTAL-4_1
designator X?, comment 40MHz
Oscillator
footprint OSC-SMD_4P-L3.2-W2.5-BL (有源晶振)
pins: 1 NC, 2 GND (power), 3 OUT (out), 4 VCC (power)